# Altium schematic symbol library Display.SchLib: 1 symbol
Pins are listed as number, name and electrical type; pins without a type are passive.

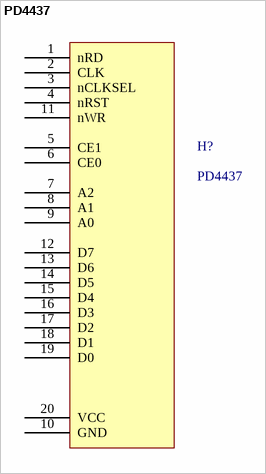
[diagram p0: symbol PD4437]

## PD4437
designator H?
footprint DIP20
pins: 1 nRD, 2 CLK, 3 nCLKSEL, 4 nRST, 5 CE1, 6 CE0, 7 A2, 8 A1, 9 A0, 10 GND, 11 nWR, 12 D7, 13 D6, 14 D5, 15 D4, 16 D3, 17 D2, 18 D1, 19 D0, 20 VCC